# Altium footprint library ZH1.5.PcbLib: 63 footprints (part 1 of 4)
Each footprint in its own frame and in the unit in brackets; x right, y up, seen from the top. Pads: shape width x height; smd on the part's side, far side on the other; paste and mask are expansions set on the pad; w line width, h text height; cw(c..) or ccw(c..) is an arc to the next point about the centre after c.
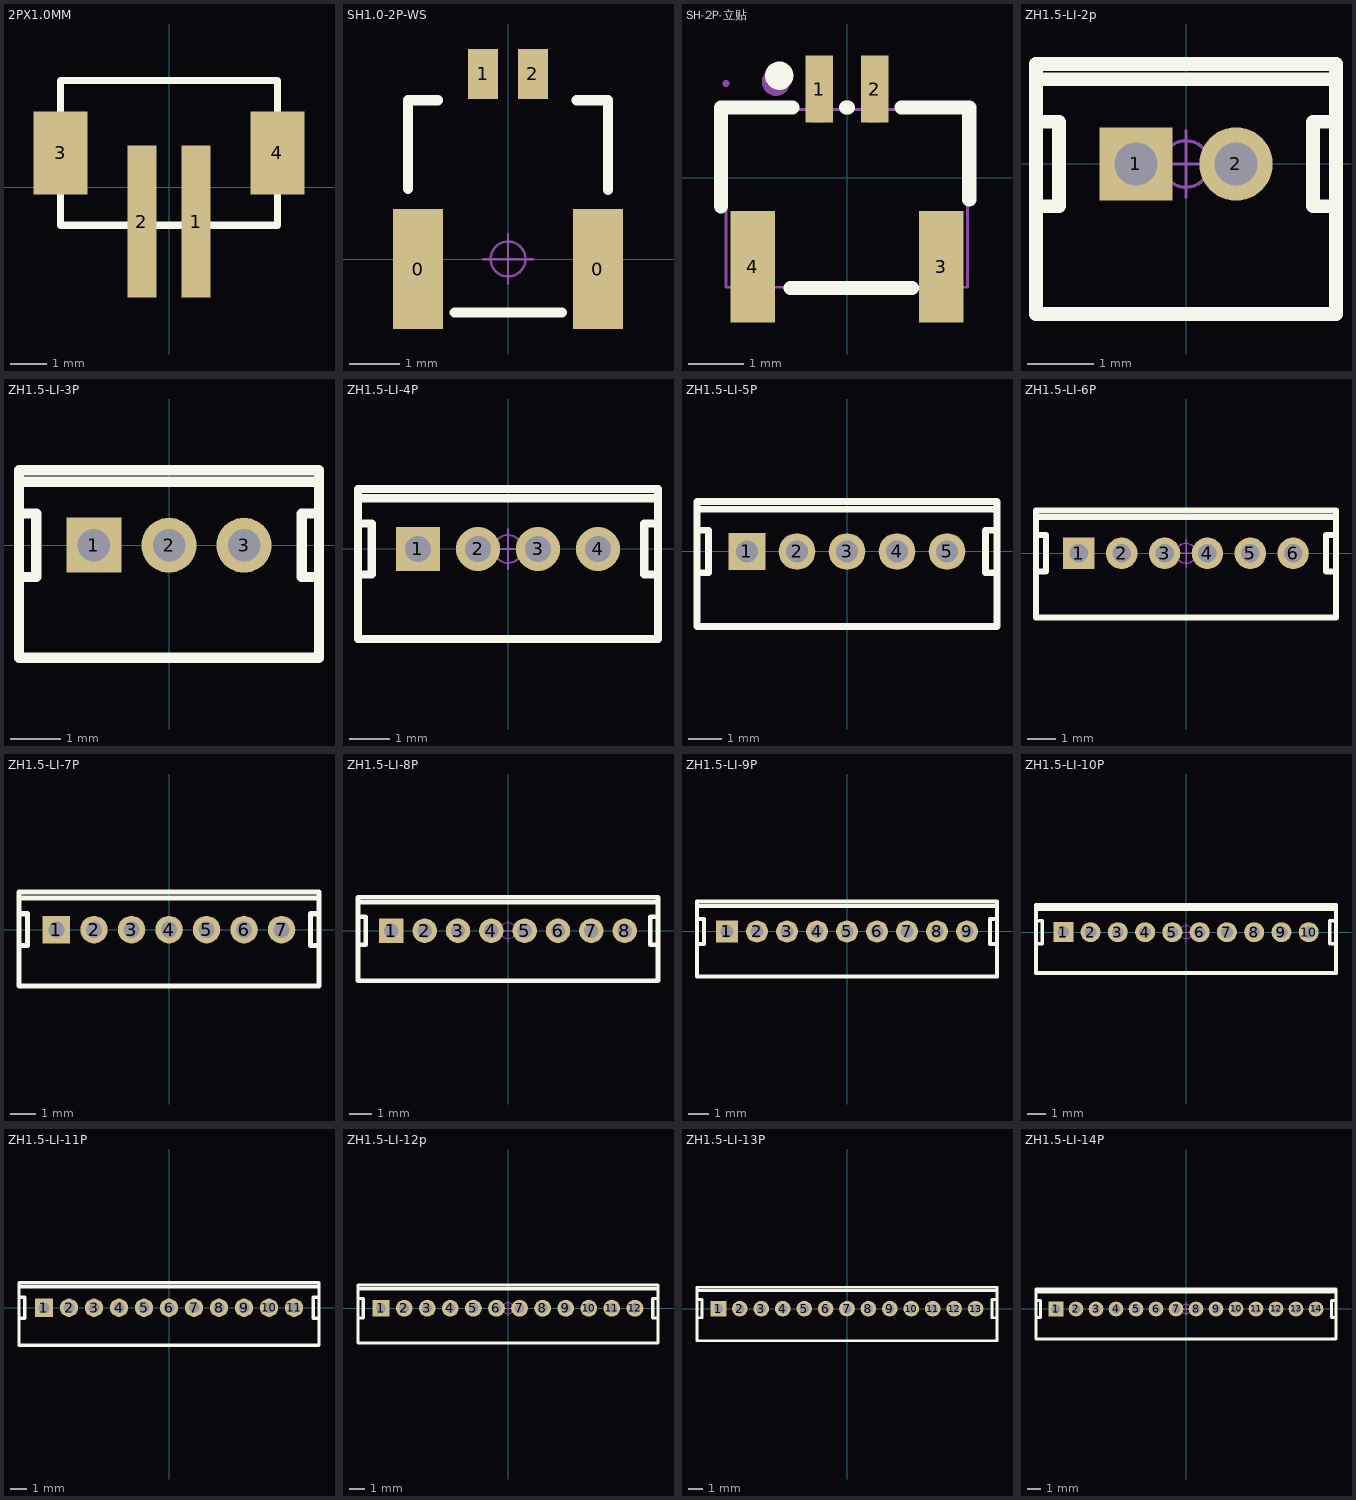
[diagram p0: the footprints below, top view; thin cyan lines are the x and y axes]

## 2PX1.0MM [mm]
height 8
pads (4):
  rect 0.8x4.2 smd: 1(0.75,-0.95) 2(-0.75,-0.95)
  rect 1.5x2.3 smd: 3(-3,0.95) 4(3,0.95)
Top Overlay:
  lines w0.203: -3,-1.05 -3,2.95 3,2.95 3,-1.05 -3,-1.05
3D body "ZH1.5-LS-2P.STEP": height 5.05, standoff 0, extent -3.05,-2.334 3.05,2.866

## SH1.0-2P-WS [mm] "长：4.5，宽：3.65，高：4.55"
pads (4):
  rect 1x2.4 smd: 0(-1.8,-0.2) 0(1.8,-0.2)
  rect 0.6x1 smd: 1(-0.5,3.7) 2(0.5,3.7)
Top Overlay:
  lines w0.203: -2,1.4 -2,3.175 -1.397,3.175 ; -1.07,-1.07 1.08,-1.07 ; 1.373,3.175 2,3.175 2,1.38
Mechanical 15:
  circle w0.05: c0,0 r0.35
  lines w0.05: -0.5,0 0.5,0 ; 0,-0.5 0,0.5

## SH-2P-立贴 [mm]
pads (4):
  rect 0.5x1.2 smd paste+0 mask+0.05: 1(-0.5,1.6) 2(0.5,1.6)
  rect 0.8x2 smd paste+0 mask+0.05: 3(1.7,-1.6) 4(-1.7,-1.6)
Top Overlay:
  circle w0.254: c-1.22,1.84 r0.127
  lines w0.254: -2.27,-0.51 -2.27,1.27 -0.981,1.27 ; -1.02,-1.98 1.17,-1.98 ; -0.019,1.27 0.019,1.27 ; 2.2,-0.392 2.2,1.27 0.98,1.27 ; 0.98,1.27 0.981,1.27
Mechanical 6:
  circle w0.254: c-1.28,1.73 r0.127
Mechanical 15:
  region: -1.8,-0.97 -1.6,-0.97 -1.6,-1.97 -1.8,-1.97
  region: 1.6,-0.97 1.8,-0.97 1.8,-1.97 1.6,-1.97
  region: -0.6,1.7 -0.4,1.7 -0.4,1 -0.6,1
  region: 0.4,1.7 0.6,1.7 0.6,1 0.4,1
  region: -2.12,1.7 -2.12,1.725 -2.155,1.76 -2.205,1.76 -2.24,1.725 -2.24,1.7 -2.24,1.675 -2.205,1.64 -2.155,1.64 -2.12,1.675 -2.12,1.7
  lines w0.051: -2.18,-1.97 2.17,-1.97 2.17,1.23 -2.18,1.23 -2.18,-1.97

## ZH1.5-LI-2p [mm] "长：4.5，宽：3.65，高：4.55"
pads (2):
  rect 1.1x1.1 hole 0.65: 1(-0.75,0)
  round 1.1 hole 0.65: 2(0.75,0)
Top Overlay:
  lines w0.203: -2.25,-0.635 -1.905,-0.635 -1.905,0.635 -2.25,0.635 ; -2.25,1.27 2.25,1.27 ; 2.25,-0.635 1.905,-0.635 1.905,0.635 2.25,0.635 ; -2.25,-2.25 2.25,-2.25 2.25,1.5 -2.25,1.5 -2.25,-2.25
Mechanical 15:
  circle w0.05: c0,0 r0.35
  lines w0.05: -0.5,0 0.5,0 ; 0,-0.5 0,0.5
3D body "ZH1.5-LI-2P.STEP": height 4.6, standoff -2.55, extent -2.25,-2.15 2.25,1.5

## ZH1.5-LI-3P [mm] "长：6.0，宽：3.65，高：4.55"
pads (3):
  rect 1.1x1.1 hole 0.65: 1(-1.5,0)
  round 1.1 hole 0.65: 2(0,0) 3(1.5,0)
Top Overlay:
  lines w0.203: -3,-0.635 -2.655,-0.635 -2.655,0.635 -3,0.635 ; -3,1.27 3,1.27 ; 3,-0.635 2.655,-0.635 2.655,0.635 3,0.635 ; -3,-2.25 3,-2.25 3,1.5 -3,1.5 -3,-2.25
Mechanical 15:
  circle w0.05: c0,0 r0.35
  lines w0.05: -0.5,0 0.5,0 ; 0,-0.5 0,0.5
3D body "ZH1.5-LI-3P.STEP": height 4.6, standoff -2.55, extent -3,-2.15 3,1.5

## ZH1.5-LI-4P [mm] "长：7.5，宽：3.65，高：4.55"
pads (4):
  rect 1.1x1.1 hole 0.65: 1(-2.25,0)
  round 1.1 hole 0.65: 2(-0.75,0) 3(0.75,0) 4(2.25,0)
Top Overlay:
  lines w0.203: -3.75,-0.635 -3.405,-0.635 -3.405,0.635 -3.75,0.635 ; -3.75,1.27 3.75,1.27 ; 3.75,-0.635 3.405,-0.635 3.405,0.635 3.75,0.635 ; -3.75,-2.25 -3.75,1.5 3.75,1.5 3.75,-2.25 -3.75,-2.25
Mechanical 15:
  circle w0.05: c0,0 r0.35
  lines w0.05: -0.5,0 0.5,0 ; 0,-0.5 0,0.5
3D body "ZH1.5-LI-4P.STEP": height 4.6, standoff -2.55, extent -3.75,-2.15 3.75,1.5

## ZH1.5-LI-5P [mm] "长：9.0，宽：3.65，高：4.55"
pads (5):
  rect 1.1x1.1 hole 0.65: 1(-3,0)
  round 1.1 hole 0.65: 2(-1.5,0) 3(0,0) 4(1.5,0) 5(3,0)
Top Overlay:
  lines w0.203: -4.5,-0.635 -4.155,-0.635 -4.155,0.635 -4.5,0.635 ; -4.5,1.27 4.5,1.27 ; 4.5,-0.635 4.155,-0.635 4.155,0.635 4.5,0.635 ; -4.5,-2.25 -4.5,1.5 4.5,1.5 4.5,-2.25 -4.5,-2.25
Mechanical 15:
  circle w0.05: c0,0 r0.35
  lines w0.05: -0.5,0 0.5,0 ; 0,-0.5 0,0.5
3D body "ZH1.5-LI-5P.STEP": height 4.6, standoff -2.55, extent -4.5,-2.15 4.5,1.5

## ZH1.5-LI-6P [mm] "长：10.5，宽：3.65，高：4.55"
pads (6):
  rect 1.1x1.1 hole 0.65: 1(-3.75,0)
  round 1.1 hole 0.65: 2(-2.25,0) 3(-0.75,0) 4(0.75,0) 5(2.25,0) 6(3.75,0)
Top Overlay:
  lines w0.203: -5.25,-0.635 -4.905,-0.635 -4.905,0.635 -5.25,0.635 ; -5.25,1.27 5.25,1.27 ; 5.25,-0.635 4.905,-0.635 4.905,0.635 5.25,0.635 ; -5.25,-2.25 -5.25,1.5 5.25,1.5 5.25,-2.25 -5.25,-2.25
Mechanical 15:
  circle w0.05: c0,0 r0.35
  lines w0.05: -0.5,0 0.5,0 ; 0,-0.5 0,0.5
3D body "ZH1.5-LI-6P.STEP": height 4.6, standoff -2.55, extent -5.25,-2.15 5.25,1.5

## ZH1.5-LI-7P [mm] "长：12.0，宽：3.65，高：4.55"
pads (7):
  rect 1.1x1.1 hole 0.65: 1(-4.5,0)
  round 1.1 hole 0.65: 2(-3,0) 3(-1.5,0) 4(0,0) 5(1.5,0) 6(3,0) 7(4.5,0)
Top Overlay:
  lines w0.203: -6,-0.635 -5.655,-0.635 -5.655,0.635 -6,0.635 ; -6,1.27 6,1.27 ; 6,-0.635 5.655,-0.635 5.655,0.635 6,0.635 ; -6,-2.25 6,-2.25 6,1.5 -6,1.5 -6,-2.25
Mechanical 15:
  circle w0.05: c0,0 r0.35
  lines w0.05: -0.5,0 0.5,0 ; 0,-0.5 0,0.5
3D body "ZH1.5-LI-7P.STEP": height 4.6, standoff -2.55, extent -6,-2.15 6,1.5

## ZH1.5-LI-8P [mm] "长：13.5，宽：3.65，高：4.55"
pads (8):
  rect 1.1x1.1 hole 0.65: 1(-5.25,0)
  round 1.1 hole 0.65: 2(-3.75,0) 3(-2.25,0) 4(-0.75,0) 5(0.75,0) 6(2.25,0) 7(3.75,0) 8(5.25,0)
Top Overlay:
  lines w0.203: -6.75,-0.635 -6.405,-0.635 -6.405,0.635 -6.75,0.635 ; -6.75,1.27 6.75,1.27 ; 6.75,-0.635 6.405,-0.635 6.405,0.635 6.75,0.635 ; -6.75,-2.25 -6.75,1.5 6.75,1.5 6.75,-2.25 -6.75,-2.25
Mechanical 15:
  circle w0.05: c0,0 r0.35
  lines w0.05: -0.5,0 0.5,0 ; 0,-0.5 0,0.5
3D body "ZH1.5-LI-8P.STEP": height 4.6, standoff -2.55, extent -6.75,-2.15 6.75,1.5

## ZH1.5-LI-9P [mm] "长：15.0，宽：3.65，高：4.55"
pads (9):
  rect 1.1x1.1 hole 0.65: 1(-6,0)
  round 1.1 hole 0.65: 2(-4.5,0) 3(-3,0) 4(-1.5,0) 5(0,0) 6(1.5,0) 7(3,0) 8(4.5,0) 9(6,0)
Top Overlay:
  lines w0.203: -7.5,-0.635 -7.155,-0.635 -7.155,0.635 -7.5,0.635 ; -7.5,1.27 7.5,1.27 ; 7.5,-0.635 7.155,-0.635 7.155,0.635 7.5,0.635 ; -7.5,-2.25 -7.5,1.5 7.5,1.5 7.5,-2.25 -7.5,-2.25
Mechanical 15:
  circle w0.05: c0,0 r0.35
  lines w0.05: -0.5,0 0.5,0 ; 0,-0.5 0,0.5
3D body "ZH1.5-LI-9P.STEP": height 4.6, standoff -2.55, extent -7.5,-2.15 7.5,1.5

## ZH1.5-LI-10P [mm] "长：16.5，宽：3.65，高：4.55"
pads (10):
  rect 1.1x1.1 hole 0.65: 1(-6.75,0)
  round 1.1 hole 0.65: 2(-5.25,0) 3(-3.75,0) 4(-2.25,0) 5(-0.75,0) 6(0.75,0) 7(2.25,0) 8(3.75,0) 9(5.25,0) 10(6.75,0)
Top Overlay:
  lines w0.203: -8.25,-0.635 -7.905,-0.635 -7.905,0.635 -8.25,0.635 ; -8.25,1.27 8.25,1.27 ; 8.25,-0.635 7.905,-0.635 7.905,0.635 8.25,0.635 ; -8.25,-2.25 8.25,-2.25 8.25,1.5 -8.25,1.5 -8.25,-2.25
Mechanical 15:
  circle w0.05: c0,0 r0.35
  lines w0.05: -0.5,0 0.5,0 ; 0,-0.5 0,0.5
3D body "ZH1.5-LI-10P.STEP": height 4.6, standoff -2.55, extent -8.25,-2.15 8.25,1.5

## ZH1.5-LI-11P [mm] "长：18.0，宽：3.65，高：4.55"
pads (11):
  rect 1.1x1.1 hole 0.65: 1(-7.5,0)
  round 1.1 hole 0.65: 2(-6,0) 3(-4.5,0) 4(-3,0) 5(-1.5,0) 6(0,0) 7(1.5,0) 8(3,0) 9(4.5,0) 10(6,0) 11(7.5,0)
Top Overlay:
  lines w0.203: -9,-0.635 -8.655,-0.635 -8.655,0.635 -9,0.635 ; -9,1.27 9,1.27 ; 9,-0.635 8.655,-0.635 8.655,0.635 9,0.635 ; -9,-2.25 -9,1.5 9,1.5 9,-2.25 -9,-2.25
Mechanical 15:
  circle w0.05: c0,0 r0.35
  lines w0.05: -0.5,0 0.5,0 ; 0,-0.5 0,0.5
3D body "ZH1.5-LI-11P.STEP": height 4.6, standoff -2.55, extent -9,-2.15 9,1.5

## ZH1.5-LI-12p [mm] "长：19.5，宽：3.65，高：4.55"
pads (12):
  rect 1.1x1.1 hole 0.65: 1(-8.25,0)
  round 1.1 hole 0.65: 2(-6.75,0) 3(-5.25,0) 4(-3.75,0) 5(-2.25,0) 6(-0.75,0) 7(0.75,0) 8(2.25,0) 9(3.75,0) 10(5.25,0) 11(6.75,0) 12(8.25,0)
Top Overlay:
  lines w0.203: -9.75,-0.635 -9.405,-0.635 -9.405,0.635 -9.75,0.635 ; -9.75,1.27 9.75,1.27 ; 9.75,-0.635 9.405,-0.635 9.405,0.635 9.75,0.635 ; -9.75,-2.25 9.75,-2.25 9.75,1.5 -9.75,1.5 -9.75,-2.25
Mechanical 15:
  circle w0.05: c0,0 r0.35
  lines w0.05: -0.5,0 0.5,0 ; 0,-0.5 0,0.5
3D body "ZH1.5-LI-12P.STEP": height 4.6, standoff -2.55, extent -9.75,-2.15 9.75,1.5

## ZH1.5-LI-13P [mm] "长：21.0，宽：3.65，高：4.55"
pads (13):
  rect 1.1x1.1 hole 0.65: 1(-9,0)
  round 1.1 hole 0.65: 2(-7.5,0) 3(-6,0) 4(-4.5,0) 5(-3,0) 6(-1.5,0) 7(0,0) 8(1.5,0) 9(3,0) 10(4.5,0) 11(6,0) 12(7.5,0) 13(9,0)
Top Overlay:
  lines w0.203: -10.5,-0.635 -10.155,-0.635 -10.155,0.635 -10.5,0.635 ; -10.5,1.27 10.5,1.27 ; 10.5,-0.635 10.155,-0.635 10.155,0.635 10.5,0.635 ; -10.5,-2.25 10.5,-2.25 10.5,1.5 -10.5,1.5 -10.5,-2.25
Mechanical 15:
  circle w0.05: c0,0 r0.35
  lines w0.05: -0.5,0 0.5,0 ; 0,-0.5 0,0.5
3D body "ZH1.5-LI-13P.STEP": height 4.6, standoff -2.55, extent -10.5,-2.15 10.5,1.5

## ZH1.5-LI-14P [mm] "长：22.5，宽：3.65，高：4.55"
pads (14):
  rect 1.1x1.1 hole 0.65: 1(-9.75,0)
  round 1.1 hole 0.65: 2(-8.25,0) 3(-6.75,0) 4(-5.25,0) 5(-3.75,0) 6(-2.25,0) 7(-0.75,0) 8(0.75,0) 9(2.25,0) 10(3.75,0) 11(5.25,0) 12(6.75,0) 13(8.25,0) 14(9.75,0)
Top Overlay:
  lines w0.203: -11.25,-0.635 -10.905,-0.635 -10.905,0.635 -11.25,0.635 ; -11.25,1.27 11.25,1.27 ; 11.25,-0.635 10.905,-0.635 10.905,0.635 11.25,0.635 ; -11.25,-2.25 -11.25,1.5 11.25,1.5 11.25,-2.25 -11.25,-2.25
Mechanical 15:
  circle w0.05: c0,0 r0.35
  lines w0.05: -0.5,0 0.5,0 ; 0,-0.5 0,0.5
3D body "ZH1.5-LI-14P.STEP": height 4.6, standoff -2.55, extent -11.25,-2.15 11.25,1.5